# Altium footprint library PCB - CONNECTOR - WURTH - WURTH SMP 60114002122502.PcbLib: 1 footprints
Each footprint in its own frame and in the unit in brackets; x right, y up, seen from the top. Pads: shape width x height; smd on the part's side, far side on the other; paste and mask are expansions set on the pad; w line width, h text height; cw(c..) or ccw(c..) is an arc to the next point about the centre after c.
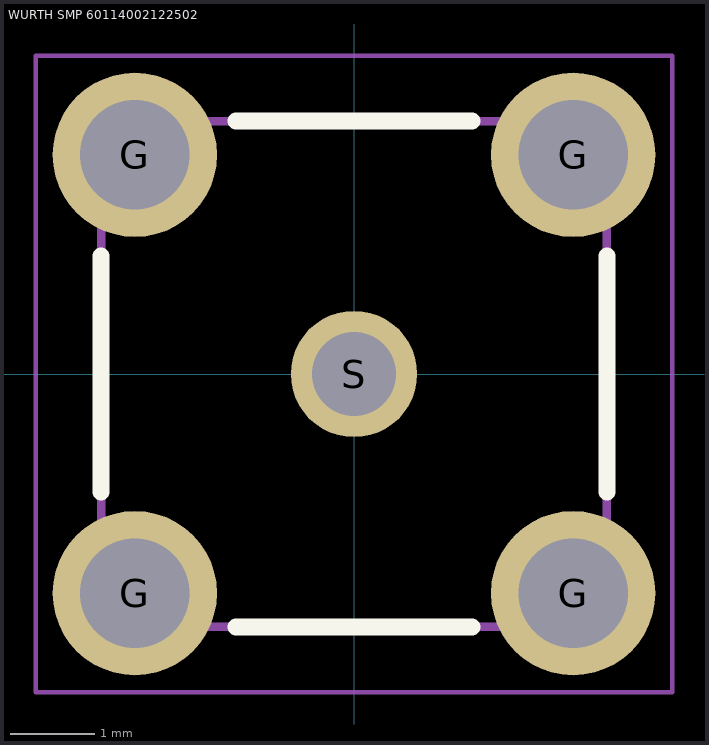
[diagram p0: the footprint, top view; thin cyan lines are the x and y axes]

## WURTH SMP 60114002122502 [mm] "SMP PCB THT Plug"
height 4.1
pads (5):
  round 1.95 hole 1.3: G(-2.6,-2.6) G(-2.6,2.6) G(2.6,-2.6) G(2.6,2.6)
  round 1.5 hole 1: S(0,0)
Top Overlay:
  lines w0.2: -3,-1.4 -3,1.4 ; -1.4,-3 1.4,-3 ; -1.4,3 1.4,3 ; 3,-1.4 3,1.4
Top Component Center:
  lines w0.05: -0.5,0 0.5,0 ; 0,-0.5 0,0.5
Top Component Outline:
  lines w0.1: -3,-3 -3,3 ; -3,-3 3,-3 ; -3,-3 3,-3 ; -3,-3 -3,3 ; -3,3 3,3 ; -3,3 3,3 ; 3,-3 3,3 ; 3,-3 3,3
Top Courtyard:
  lines w0.05: -3.775,-3.775 -3.775,3.775 3.775,3.775 3.775,-3.775 -3.775,-3.775
3D body "Wurth 60114002122502.step": height 4.1, standoff -2.5, extent -3,-3 3,3